# EAGLE library part ADS8331IBPW (library puggleboard)
ADC
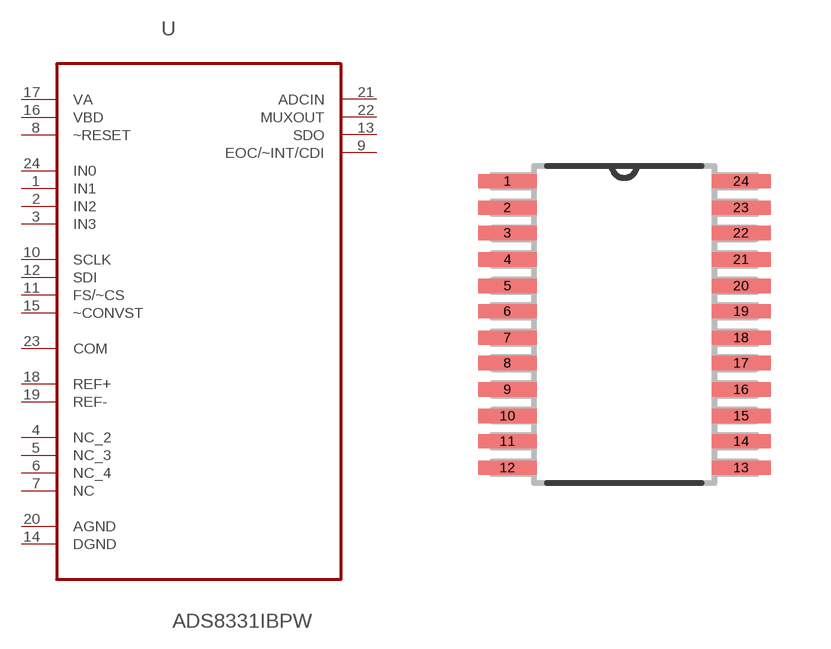
[diagram p7: symbol with the pads of SOP65P640X120-24N; footprint SOP65P640X120-24N]

Designator prefix U

## ADS8331IBPW (MPN: ADS8331IBPW; OC_FARNELL: 1882255; OC_NEWARK: 27T6163; PACKAGE: TSSOP-24; SUPPLIER: Texas Instruments)  [SOP65P640X120-24N]
1  IN1  in
2  IN2  in
3  IN3  in
4  NC_2  nc
5  NC_3  nc
6  NC_4  nc
7  NC  nc
8  ~RESET  in
9  EOC/~INT/CDI
10  SCLK  in
11  FS/~CS  in
12  SDI  in
13  SDO  out
14  DGND  pas
15  ~CONVST  in
16  VBD  pwr
17  VA  pwr
18  REF+  in
19  REF-  in
20  AGND  pas
21  ADCIN  in
22  MUXOUT  out
23  COM  in
24  IN0  in

## Footprint SOP65P640X120-24N (pad centres in mm)
smd 1.473 x 0.356: 1 -2.921,3.581; 2 -2.921,2.921; 3 -2.921,2.286; 4 -2.921,1.626; 5 -2.921,0.965; 6 -2.921,0.33; 7 -2.921,-0.33; 8 -2.921,-0.965; 9 -2.921,-1.626; 10 -2.921,-2.286; 11 -2.921,-2.921; 12 -2.921,-3.581; 13 2.921,-3.581; 14 2.921,-2.921; 15 2.921,-2.286; 16 2.921,-1.626; 17 2.921,-0.965; 18 2.921,-0.33; 19 2.921,0.33; 20 2.921,0.965; 21 2.921,1.626; 22 2.921,2.286; 23 2.921,2.921; 24 2.921,3.581